# Altium footprint library Texas_Instruments.PcbLib: 113 footprints (part 1 of 8)
Each footprint in its own frame and in the unit in brackets; x right, y up, seen from the top. Pads: shape width x height; smd on the part's side, far side on the other; paste and mask are expansions set on the pad; w line width, h text height; cw(c..) or ccw(c..) is an arc to the next point about the centre after c.
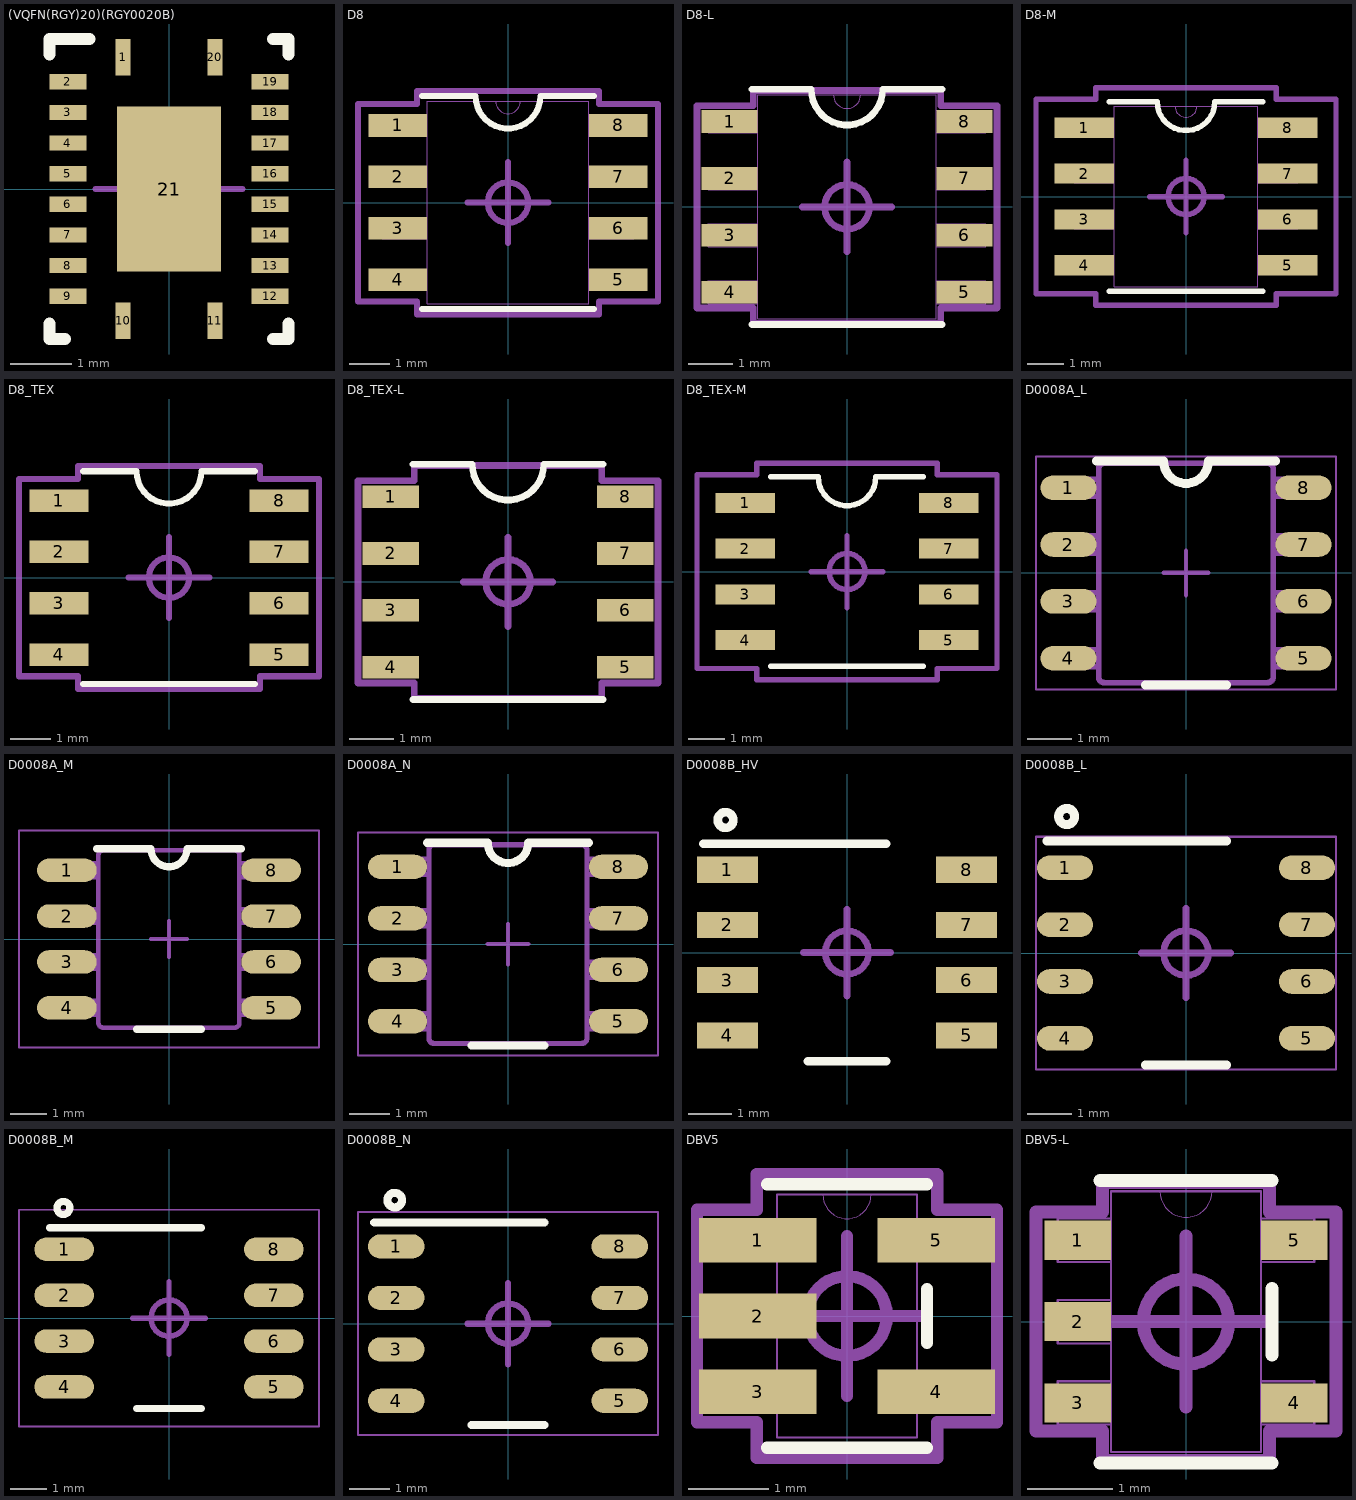
[diagram p0: the footprints below, top view; thin cyan lines are the x and y axes]

## (VQFN(RGY)20)(RGY0020B) [mm]
pads (21):
  rect 0.25x0.6 smd paste+0 mask+0.051: 1(-0.75,2.15) 10(-0.75,-2.15) 11(0.75,-2.15) 20(0.75,2.15)
  rect 0.6x0.25 smd paste+0 mask+0.051: 2(-1.65,1.75) 3(-1.65,1.25) 4(-1.65,0.75) 5(-1.65,0.25) 6(-1.65,-0.25) 7(-1.65,-0.75) 8(-1.65,-1.25) 9(-1.65,-1.75) 12(1.65,-1.75) 13(1.65,-1.25) 14(1.65,-0.75) 15(1.65,-0.25) 16(1.65,0.25) 17(1.65,0.75) 18(1.65,1.25) 19(1.65,1.75)
  rect 1.7x2.7 smd paste-1.337 mask+0.051: 21(0,0)
Top Overlay:
  lines w0.2: -1.95,-2.2 -1.95,-2.45 -1.7,-2.45 ; -1.95,2.2 -1.95,2.45 -1.3,2.45 ; 1.7,-2.45 1.95,-2.45 1.95,-2.2 ; 1.7,2.45 1.95,2.45 1.95,2.2
Top Paste:
  region: 0.774,-1.288 0.774,-0.1 -0.774,-0.1 -0.774,-1.288
  region: 0.774,0.1 0.774,1.288 -0.774,1.288 -0.774,0.1
Mechanical 15:
  circle w0.1: c0,0 r0.5
  lines w0.1: -1.2,0 0,0 ; 0,-1.2 0,0 ; 0,1.2 0,0 ; 1.2,0 0,0
3D body "User Library-20-VQFN (3_5x4_5).STEP": height 0.85, standoff -0.05, extent -1.76,-2.26 1.76,2.26

## D8 [mm]
pads (8):
  rect 1.455x0.558 smd: 1(-2.721,1.905) 2(-2.721,0.635) 3(-2.721,-0.635) 4(-2.721,-1.905) 5(2.721,-1.905) 6(2.721,-0.635) 7(2.721,0.635) 8(2.721,1.905)
Top Overlay:
  lines w0.152: -2.121,-2.629 2.121,-2.629 ; -2.121,2.629 -0.8,2.629 ccw(c0,2.629) 0.8,2.629 2.121,2.629
Mechanical 13:
  lines w0: -0.305,2.502 ccw(c0,2.502) 0.305,2.502
  lines w0.025: -3.099,-2.159 -1.994,-2.159 -1.994,-1.651 -3.099,-1.651 -3.099,-2.159 ; -3.099,-0.889 -1.994,-0.889 -1.994,-0.381 -3.099,-0.381 -3.099,-0.889 ; -3.099,0.381 -1.994,0.381 -1.994,0.889 -3.099,0.889 -3.099,0.381 ; -3.099,1.651 -1.994,1.651 -1.994,2.159 -3.099,2.159 -3.099,1.651 ; -1.994,-2.502 -1.994,2.502 1.994,2.502 1.994,-2.502 -1.994,-2.502 ; 1.994,-2.159 3.099,-2.159 3.099,-1.651 1.994,-1.651 1.994,-2.159 ; 1.994,-0.889 3.099,-0.889 3.099,-0.381 1.994,-0.381 1.994,-0.889 ; 1.994,0.381 3.099,0.381 3.099,0.889 1.994,0.889 1.994,0.381 ; 1.994,1.651 3.099,1.651 3.099,2.159 1.994,2.159 1.994,1.651
Mechanical 15:
  circle w0.152: c0,0 r0.5
  lines w0.152: -1,0 0,0 ; 0,-1 0,0 ; 0,1 0,0 ; 1,0 0,0 ; -3.703,-2.438 -2.248,-2.438 -2.248,-2.756 2.248,-2.756 2.248,-2.438 3.703,-2.438 3.703,2.438 2.248,2.438 2.248,2.756 -2.248,2.756 -2.248,2.438 -3.703,2.438 -3.703,-2.438
3D body "D0008A.stp": height 1.63, standoff 0, extent -3.011,-2.451 3.011,2.451

## D8-L [mil]
pads (8):
  rect 49.41x20 smd: 1(-103.2,75) 2(-103.2,25) 3(-103.2,-25) 4(-103.2,-75) 5(103.2,-75) 6(103.2,-25) 7(103.2,25) 8(103.2,75)
Top Overlay:
  lines w5.98: -83.5,103.5 -31.5,103.5 ccw(c0,103.5) 31.5,103.5 83.5,103.5
  lines w6: -83.5,-103.5 83.5,-103.5
Mechanical 13:
  lines w0: -12,98.5 ccw(c0,98.5) 12,98.5
  lines w1: -122,-85 -122,-65 -78.5,-65 -78.5,-85 -122,-85 ; -122,-35 -122,-15 -78.5,-15 -78.5,-35 -122,-35 ; -122,15 -122,35 -78.5,35 -78.5,15 -122,15 ; -122,65 -122,85 -78.5,85 -78.5,65 -122,65 ; -78.5,-98.5 78.5,-98.5 78.5,98.5 -78.5,98.5 -78.5,-98.5 ; 78.5,-85 78.5,-65 122,-65 122,-85 78.5,-85 ; 78.5,-35 78.5,-15 122,-15 122,-35 78.5,-35 ; 78.5,15 78.5,35 122,35 122,15 78.5,15 ; 78.5,65 78.5,85 122,85 122,65 78.5,65
Mechanical 15:
  circle w5.98: c0,0 r19.68
  lines w5.98: -39.37,0 0,0 ; 0,-39.37 0,0 ; 0,39.37 0,0 ; 39.37,0 0,0
  lines w6: -131.91,-89 -131.91,89 -82.5,89 -82.5,102.5 82.5,102.5 82.5,89 131.91,89 131.91,-89 82.5,-89 82.5,-102.5 -82.5,-102.5 -82.5,-89 -131.91,-89
3D body "D0008A.stp": height 64, standoff 0, extent -118.55,-96.49 118.56,96.51

## D8-M [mm]
pads (8):
  rect 1.655x0.558 smd: 1(-2.821,1.905) 2(-2.821,0.635) 3(-2.821,-0.635) 4(-2.821,-1.905) 5(2.821,-1.905) 6(2.821,-0.635) 7(2.821,0.635) 8(2.821,1.905)
Top Overlay:
  lines w0.152: -2.121,-2.629 2.121,-2.629 ; -2.121,2.629 -0.8,2.629 ccw(c0,2.629) 0.8,2.629 2.121,2.629
Mechanical 13:
  lines w0: -0.305,2.502 ccw(c0,2.502) 0.305,2.502
  lines w0.025: -3.099,-2.159 -1.994,-2.159 -1.994,-1.651 -3.099,-1.651 -3.099,-2.159 ; -3.099,-0.889 -1.994,-0.889 -1.994,-0.381 -3.099,-0.381 -3.099,-0.889 ; -3.099,0.381 -1.994,0.381 -1.994,0.889 -3.099,0.889 -3.099,0.381 ; -3.099,1.651 -1.994,1.651 -1.994,2.159 -3.099,2.159 -3.099,1.651 ; -1.994,-2.502 -1.994,2.502 1.994,2.502 1.994,-2.502 -1.994,-2.502 ; 1.994,-2.159 3.099,-2.159 3.099,-1.651 1.994,-1.651 1.994,-2.159 ; 1.994,-0.889 3.099,-0.889 3.099,-0.381 1.994,-0.381 1.994,-0.889 ; 1.994,0.381 3.099,0.381 3.099,0.889 1.994,0.889 1.994,0.381 ; 1.994,1.651 3.099,1.651 3.099,2.159 1.994,2.159 1.994,1.651
Mechanical 15:
  circle w0.152: c0,0 r0.5
  lines w0.152: -1,0 0,0 ; 0,-1 0,0 ; 0,1 0,0 ; 1,0 0,0 ; -4.157,-2.692 -2.502,-2.692 -2.502,-3.01 2.502,-3.01 2.502,-2.692 4.157,-2.692 4.157,2.692 2.502,2.692 2.502,3.01 -2.502,3.01 -2.502,2.692 -4.157,2.692 -4.157,-2.692
3D body "D0008A.stp": height 1.63, standoff 0, extent -3.011,-2.451 3.011,2.451

## D8_TEX [mil]
pads (8):
  rect 57.5x22 smd: 1(-107.25,75) 2(-107.25,25) 3(-107.25,-25) 4(-107.25,-75) 5(107.25,-75) 6(107.25,-25) 7(107.25,25) 8(107.25,75)
Top Overlay:
  lines w5.98: -83.5,103.5 -31.5,103.5 ccw(c0,103.5) 31.5,103.5 83.5,103.5
  lines w6: -83.5,-103.5 83.5,-103.5
Mechanical 15:
  circle w5.98: c0,0 r19.68
  lines w5.98: -39.37,0 0,0 ; 0,-39.37 0,0 ; 0,39.37 0,0 ; 39.37,0 0,0
  lines w6: -146,-96 -146,96 -88.5,96 -88.5,108.5 88.5,108.5 88.5,96 146,96 146,-96 88.5,-96 88.5,-108.5 -88.5,-108.5 -88.5,-96 -146,-96
3D body "D0008A.stp": height 64, standoff 0, extent -118.55,-96.5 118.56,96.5

## D8_TEX-L [mil]
pads (8):
  rect 49.5x20 smd: 1(-103.25,75) 2(-103.25,25) 3(-103.25,-25) 4(-103.25,-75) 5(103.25,-75) 6(103.25,-25) 7(103.25,25) 8(103.25,75)
Top Overlay:
  lines w5.98: -83.5,103.5 -31.5,103.5 ccw(c0,103.5) 31.5,103.5 83.5,103.5
  lines w6: -83.5,-103.5 83.5,-103.5
Mechanical 15:
  circle w5.98: c0,0 r19.68
  lines w5.98: -39.37,0 0,0 ; 0,-39.37 0,0 ; 0,39.37 0,0 ; 39.37,0 0,0
  lines w6: -132,-89 -82.5,-89 -82.5,-102.5 82.5,-102.5 82.5,-89 132,-89 132,89 82.5,89 82.5,102.5 -82.5,102.5 -82.5,89 -132,89 -132,-89
3D body "D0008A.stp": height 64, standoff 0, extent -118.55,-96.5 118.56,96.5

## D8_TEX-M [mil]
pads (8):
  rect 65.5x22 smd: 1(-111.25,75) 2(-111.25,25) 3(-111.25,-25) 4(-111.25,-75) 5(111.25,-75) 6(111.25,-25) 7(111.25,25) 8(111.25,75)
Top Overlay:
  lines w5.98: -83.5,103.5 -31.5,103.5 ccw(c0,103.5) 31.5,103.5 83.5,103.5
  lines w6: -83.5,-103.5 83.5,-103.5
Mechanical 15:
  circle w5.98: c0,0 r19.68
  lines w5.98: -39.37,0 0,0 ; 0,-39.37 0,0 ; 0,39.37 0,0 ; 39.37,0 0,0
  lines w6: -164,-106 -98.5,-106 -98.5,-118.5 98.5,-118.5 98.5,-106 164,-106 164,106 98.5,106 98.5,118.5 -98.5,118.5 -98.5,106 -164,106 -164,-106
3D body "D0008A.stp": height 64, standoff 0, extent -118.55,-96.5 118.56,96.5

## D0008A_L [mm]
pads (8):
  oval 1.25x0.55 smd paste+0 mask+0.051: 1(-2.625,1.905) 2(-2.625,0.635) 3(-2.625,-0.635) 4(-2.625,-1.905) 5(2.625,-1.905) 6(2.625,-0.635) 7(2.625,0.635) 8(2.625,1.905)
Top Overlay:
  lines w0.2: -2,2.5 -0.5,2.5 ccw(c0,2.5) 0.5,2.5 2,2.5 ; -0.9,-2.5 0.9,-2.5
Mechanical 13:
  lines w0.127: -2.375,-2.095 -2.375,-1.715 ; -2.375,-2.095 -2.589,-2.095 -3.002,-2.095 -3.002,-1.715 -2.589,-1.715 -2.375,-1.715 ; -2.375,-2.095 -1.995,-2.095 -1.952,-2.095 -1.952,-1.715 -1.995,-1.715 -2.375,-1.715 ; -2.375,-0.825 -2.375,-0.445 ; -2.375,-0.825 -2.589,-0.825 -3.002,-0.825 -3.002,-0.445 -2.589,-0.445 -2.375,-0.445 ; -2.375,-0.825 -1.995,-0.825 -1.952,-0.825 -1.952,-0.445 -1.995,-0.445 -2.375,-0.445 ; -2.375,0.445 -2.375,0.825 ; -2.375,0.445 -2.589,0.445 -3.002,0.445 -3.002,0.825 -2.589,0.825 -2.375,0.825 ; -2.375,0.445 -1.995,0.445 -1.952,0.445 -1.952,0.825 -1.995,0.825 -2.375,0.825 ; -2.375,1.715 -2.375,2.095 ; -2.375,1.715 -2.589,1.715 -3.002,1.715 -3.002,2.095 -2.589,2.095 -2.375,2.095 ; -2.375,1.715 -1.995,1.715 -1.952,1.715 -1.952,2.095 -1.995,2.095 -2.375,2.095 ; -0.332,-2.45 -0.182,-2.45 ; -0.332,-2.45 -0.182,-2.45 ; -0.332,-2.45 -1.825,-2.45 -1.826,-2.45 cw(c-1.825,-2.323) -1.952,-2.324 -1.952,-2.323 -1.952,2.323 -1.952,2.324 cw(c-1.825,2.323) -1.826,2.45 -1.825,2.45 -0.332,2.45 ; -0.332,2.45 -0.182,2.45 ; -0.332,2.45 -0.182,2.45 ; -0.182,-2.45 0.178,-2.45 ; -0.182,2.45 0.178,2.45 ; 0.178,-2.45 0.328,-2.45 ; 0.178,-2.45 0.328,-2.45 ; 0.178,2.45 0.328,2.45 ; 0.178,2.45 0.328,2.45 ; 0.328,-2.45 1.821,-2.45 1.822,-2.45 ccw(c1.821,-2.323) 1.948,-2.324 1.948,-2.323 1.948,2.323 1.948,2.324 ccw(c1.821,2.323) 1.822,2.45 1.821,2.45 0.328,2.45 ; 2.371,-2.095 2.371,-1.715 ; 2.371,-2.095 1.991,-2.095 1.948,-2.095 1.948,-1.715 1.991,-1.715 2.371,-1.715 ; 2.371,-2.095 2.585,-2.095 2.998,-2.095 2.998,-1.715 2.585,-1.715 2.371,-1.715 ; 2.371,-0.825 2.371,-0.445 ; 2.371,-0.825 1.991,-0.825 1.948,-0.825 1.948,-0.445 1.991,-0.445 2.371,-0.445 ; 2.371,-0.825 2.585,-0.825 2.998,-0.825 2.998,-0.445 2.585,-0.445 2.371,-0.445 ; 2.371,0.445 2.371,0.825 ; 2.371,0.445 1.991,0.445 1.948,0.445 1.948,0.825 1.991,0.825 2.371,0.825 ; 2.371,0.445 2.585,0.445 2.998,0.445 2.998,0.825 2.585,0.825 2.371,0.825 ; 2.371,1.715 2.371,2.095 ; 2.371,1.715 1.991,1.715 1.948,1.715 1.948,2.095 1.991,2.095 2.371,2.095 ; 2.371,1.715 2.585,1.715 2.998,1.715 2.998,2.095 2.585,2.095 2.371,2.095
Mechanical 15:
  lines w0.05: -3.35,-2.6 3.35,-2.6 3.35,2.6 -3.35,2.6 -3.35,-2.6
  lines w0.1: -0.5,0 0.5,0 ; 0,-0.5 0,0.5
3D body: height 0.25, standoff 0, extent 0,0 0.254,0.254
3D body "D0008B.stp": height 1.63, standoff 0, extent -3.011,-2.451 3.012,2.451

## D0008A_M [mm]
pads (8):
  oval 1.65x0.65 smd paste+0 mask+0.051: 1(-2.825,1.905) 2(-2.825,0.635) 3(-2.825,-0.635) 4(-2.825,-1.905) 5(2.825,-1.905) 6(2.825,-0.635) 7(2.825,0.635) 8(2.825,1.905)
Top Overlay:
  lines w0.2: -2,2.5 -0.5,2.5 ccw(c0,2.5) 0.5,2.5 2,2.5 ; -0.9,-2.5 0.9,-2.5
Mechanical 13:
  lines w0.127: -2.375,-2.095 -1.995,-2.095 -1.952,-2.095 -1.952,-1.715 -1.995,-1.715 -2.375,-1.715 ; -2.375,-2.095 -2.589,-2.095 -3.002,-2.095 -3.002,-1.715 -2.589,-1.715 -2.375,-1.715 ; -2.375,-2.095 -2.375,-1.715 ; -2.375,-0.825 -1.995,-0.825 -1.952,-0.825 -1.952,-0.445 -1.995,-0.445 -2.375,-0.445 ; -2.375,-0.825 -2.589,-0.825 -3.002,-0.825 -3.002,-0.445 -2.589,-0.445 -2.375,-0.445 ; -2.375,-0.825 -2.375,-0.445 ; -2.375,0.445 -1.995,0.445 -1.952,0.445 -1.952,0.825 -1.995,0.825 -2.375,0.825 ; -2.375,0.445 -2.589,0.445 -3.002,0.445 -3.002,0.825 -2.589,0.825 -2.375,0.825 ; -2.375,0.445 -2.375,0.825 ; -2.375,1.715 -1.995,1.715 -1.952,1.715 -1.952,2.095 -1.995,2.095 -2.375,2.095 ; -2.375,1.715 -2.589,1.715 -3.002,1.715 -3.002,2.095 -2.589,2.095 -2.375,2.095 ; -2.375,1.715 -2.375,2.095 ; -0.332,-2.45 -1.825,-2.45 -1.826,-2.45 cw(c-1.825,-2.323) -1.952,-2.324 -1.952,-2.323 -1.952,2.323 -1.952,2.324 cw(c-1.825,2.323) -1.826,2.45 -1.825,2.45 -0.332,2.45 ; -0.332,-2.45 -0.182,-2.45 ; -0.332,-2.45 -0.182,-2.45 ; -0.332,2.45 -0.182,2.45 ; -0.332,2.45 -0.182,2.45 ; -0.182,-2.45 0.178,-2.45 ; -0.182,2.45 0.178,2.45 ; 0.178,-2.45 0.328,-2.45 ; 0.178,-2.45 0.328,-2.45 ; 0.178,2.45 0.328,2.45 ; 0.178,2.45 0.328,2.45 ; 0.328,-2.45 1.821,-2.45 1.822,-2.45 ccw(c1.821,-2.323) 1.948,-2.324 1.948,-2.323 1.948,2.323 1.948,2.324 ccw(c1.821,2.323) 1.822,2.45 1.821,2.45 0.328,2.45 ; 2.371,-2.095 2.585,-2.095 2.998,-2.095 2.998,-1.715 2.585,-1.715 2.371,-1.715 ; 2.371,-2.095 1.991,-2.095 1.948,-2.095 1.948,-1.715 1.991,-1.715 2.371,-1.715 ; 2.371,-2.095 2.371,-1.715 ; 2.371,-0.825 2.585,-0.825 2.998,-0.825 2.998,-0.445 2.585,-0.445 2.371,-0.445 ; 2.371,-0.825 1.991,-0.825 1.948,-0.825 1.948,-0.445 1.991,-0.445 2.371,-0.445 ; 2.371,-0.825 2.371,-0.445 ; 2.371,0.445 2.585,0.445 2.998,0.445 2.998,0.825 2.585,0.825 2.371,0.825 ; 2.371,0.445 1.991,0.445 1.948,0.445 1.948,0.825 1.991,0.825 2.371,0.825 ; 2.371,0.445 2.371,0.825 ; 2.371,1.715 2.585,1.715 2.998,1.715 2.998,2.095 2.585,2.095 2.371,2.095 ; 2.371,1.715 1.991,1.715 1.948,1.715 1.948,2.095 1.991,2.095 2.371,2.095 ; 2.371,1.715 2.371,2.095
Mechanical 15:
  lines w0.05: -4.15,-3 4.15,-3 4.15,3 -4.15,3 -4.15,-3
  lines w0.1: -0.5,0 0.5,0 ; 0,-0.5 0,0.5
3D body: height 0.25, standoff 0, extent 0,0 0.254,0.254
3D body "D0008B.stp": height 1.63, standoff 0, extent -3.211,-2.451 2.812,2.451

## D0008A_N [mm]
pads (8):
  oval 1.45x0.6 smd paste+0 mask+0.051: 1(-2.725,1.905) 2(-2.725,0.635) 3(-2.725,-0.635) 4(-2.725,-1.905) 5(2.725,-1.905) 6(2.725,-0.635) 7(2.725,0.635) 8(2.725,1.905)
Top Overlay:
  lines w0.2: -2,2.5 -0.5,2.5 ccw(c0,2.5) 0.5,2.5 2,2.5 ; -0.9,-2.5 0.9,-2.5
Mechanical 13:
  lines w0.127: -2.375,-2.095 -2.375,-1.715 ; -2.375,-2.095 -2.589,-2.095 -3.002,-2.095 -3.002,-1.715 -2.589,-1.715 -2.375,-1.715 ; -2.375,-2.095 -1.995,-2.095 -1.952,-2.095 -1.952,-1.715 -1.995,-1.715 -2.375,-1.715 ; -2.375,-0.825 -2.375,-0.445 ; -2.375,-0.825 -2.589,-0.825 -3.002,-0.825 -3.002,-0.445 -2.589,-0.445 -2.375,-0.445 ; -2.375,-0.825 -1.995,-0.825 -1.952,-0.825 -1.952,-0.445 -1.995,-0.445 -2.375,-0.445 ; -2.375,0.445 -2.375,0.825 ; -2.375,0.445 -2.589,0.445 -3.002,0.445 -3.002,0.825 -2.589,0.825 -2.375,0.825 ; -2.375,0.445 -1.995,0.445 -1.952,0.445 -1.952,0.825 -1.995,0.825 -2.375,0.825 ; -2.375,1.715 -2.375,2.095 ; -2.375,1.715 -2.589,1.715 -3.002,1.715 -3.002,2.095 -2.589,2.095 -2.375,2.095 ; -2.375,1.715 -1.995,1.715 -1.952,1.715 -1.952,2.095 -1.995,2.095 -2.375,2.095 ; -0.332,-2.45 -0.182,-2.45 ; -0.332,-2.45 -0.182,-2.45 ; -0.332,-2.45 -1.825,-2.45 -1.826,-2.45 cw(c-1.825,-2.323) -1.952,-2.324 -1.952,-2.323 -1.952,2.323 -1.952,2.324 cw(c-1.825,2.323) -1.826,2.45 -1.825,2.45 -0.332,2.45 ; -0.332,2.45 -0.182,2.45 ; -0.332,2.45 -0.182,2.45 ; -0.182,-2.45 0.178,-2.45 ; -0.182,2.45 0.178,2.45 ; 0.178,-2.45 0.328,-2.45 ; 0.178,-2.45 0.328,-2.45 ; 0.178,2.45 0.328,2.45 ; 0.178,2.45 0.328,2.45 ; 0.328,-2.45 1.821,-2.45 1.822,-2.45 ccw(c1.821,-2.323) 1.948,-2.324 1.948,-2.323 1.948,2.323 1.948,2.324 ccw(c1.821,2.323) 1.822,2.45 1.821,2.45 0.328,2.45 ; 2.371,-2.095 2.371,-1.715 ; 2.371,-2.095 1.991,-2.095 1.948,-2.095 1.948,-1.715 1.991,-1.715 2.371,-1.715 ; 2.371,-2.095 2.585,-2.095 2.998,-2.095 2.998,-1.715 2.585,-1.715 2.371,-1.715 ; 2.371,-0.825 2.371,-0.445 ; 2.371,-0.825 1.991,-0.825 1.948,-0.825 1.948,-0.445 1.991,-0.445 2.371,-0.445 ; 2.371,-0.825 2.585,-0.825 2.998,-0.825 2.998,-0.445 2.585,-0.445 2.371,-0.445 ; 2.371,0.445 2.371,0.825 ; 2.371,0.445 1.991,0.445 1.948,0.445 1.948,0.825 1.991,0.825 2.371,0.825 ; 2.371,0.445 2.585,0.445 2.998,0.445 2.998,0.825 2.585,0.825 2.371,0.825 ; 2.371,1.715 2.371,2.095 ; 2.371,1.715 1.991,1.715 1.948,1.715 1.948,2.095 1.991,2.095 2.371,2.095 ; 2.371,1.715 2.585,1.715 2.998,1.715 2.998,2.095 2.585,2.095 2.371,2.095
Mechanical 15:
  lines w0.05: -3.7,-2.75 -3.7,2.75 3.7,2.75 3.7,-2.75 -3.7,-2.75
  lines w0.1: -0.5,0 0.5,0 ; 0,-0.5 0,0.5
3D body: height 0.25, standoff 0, extent 0,0 0.254,0.254
3D body "D0008B.stp": height 1.63, standoff 0, extent -3.111,-2.451 2.912,2.451

## D0008B_HV [mm]
pads (8):
  rect 1.4x0.6 smd: 1(-2.75,1.905) 2(-2.75,0.635) 3(-2.75,-0.635) 4(-2.75,-1.905) 5(2.75,-1.905) 6(2.75,-0.635) 7(2.75,0.635) 8(2.75,1.905)
Top Overlay:
  circle w0.2: c-2.794,3.048 r0.18
  lines w0.2: -3.3,2.5 0.9,2.5 ; -0.9,-2.5 0.9,-2.5
Mechanical 15:
  circle w0.152: c0,0 r0.5
  lines w0.152: -1,0 0,0 ; 0,-1 0,0 ; 0,1 0,0 ; 1,0 0,0
3D body "D0008B.stp": height 1.63, standoff 0, extent -3.011,-2.451 3.011,2.451

## D0008B_L [mm]
pads (8):
  oval 1.25x0.55 smd: 1(-2.7,1.905) 2(-2.7,0.635) 3(-2.7,-0.635) 4(-2.7,-1.905) 5(2.7,-1.905) 6(2.7,-0.635) 7(2.7,0.635) 8(2.7,1.905)
Top Overlay:
  circle w0.2: c-2.667,3.048 r0.18
  lines w0.2: -3.1,2.5 0.9,2.5 ; -0.9,-2.5 0.9,-2.5
Mechanical 15:
  circle w0.152: c0,0 r0.5
  lines w0.05: -3.35,-2.6 -3.35,2.6 3.35,2.6 3.35,-2.6 -3.35,-2.6
  lines w0.152: -1,0 0,0 ; 0,-1 0,0 ; 0,1 0,0 ; 1,0 0,0
3D body "D0008A.stp": height 1.63, standoff 0, extent -3.011,-2.451 3.011,2.451

## D0008B_M [mm]
pads (8):
  oval 1.65x0.65 smd: 1(-2.9,1.905) 2(-2.9,0.635) 3(-2.9,-0.635) 4(-2.9,-1.905) 5(2.9,-1.905) 6(2.9,-0.635) 7(2.9,0.635) 8(2.9,1.905)
Top Overlay:
  circle w0.2: c-2.921,3.048 r0.18
  lines w0.2: -3.3,2.5 0.9,2.5 ; -0.9,-2.5 0.9,-2.5
Mechanical 15:
  circle w0.152: c0,0 r0.5
  lines w0.05: -4.15,-3 4.15,-3 4.15,3 -4.15,3 -4.15,-3
  lines w0.152: -1,0 0,0 ; 0,-1 0,0 ; 0,1 0,0 ; 1,0 0,0
3D body "D0008A.stp": height 1.63, standoff 0, extent -3.011,-2.451 3.011,2.451

## D0008B_N [mil]
pads (8):
  oval 55x23.62 smd: 1(-108.5,75) 2(-108.5,25) 3(-108.5,-25) 4(-108.5,-75) 5(108.5,-75) 6(108.5,-25) 7(108.5,25) 8(108.5,75)
Top Overlay:
  circle w7.87: c-110,120 r7.07
  lines w7.87: -129.92,98.43 35.43,98.43 ; -35.43,-98.43 35.43,-98.43
Mechanical 15:
  circle w5.98: c0,0 r19.68
  lines w1.97: -145.67,-108.27 145.67,-108.27 145.67,108.27 -145.67,108.27 -145.67,-108.27
  lines w3.94: -19.69,0 19.68,0 ; 0,-19.68 0,19.68
  lines w5.98: -39.37,0 0,0 ; 0,-39.37 0,0 ; 0,39.37 0,0 ; 39.37,0 0,0
3D body "D0008A.stp": height 64, standoff 0, extent -118.55,-96.5 118.56,96.5

## DBV5 [mil]
pads (5):
  rect 58x22 smd: 1(-44,37.4) 2(-44,0) 3(-44,-37.4) 4(44,-37.4) 5(44,37.4)
Top Overlay:
  lines w6: -39.5,-65 39.5,-65 ; -39.5,65 39.5,65 ; 39.5,-13.3 39.5,13.3
Mechanical 13:
  lines w0: -12,60 ccw(c0,60) 12,60
  lines w1: -59,-47.4 -59,-27.4 -34.5,-27.4 -34.5,-47.4 -59,-47.4 ; -59,-10 -59,10 -34.5,10 -34.5,-10 -59,-10 ; -59,27.4 -59,47.4 -34.5,47.4 -34.5,27.4 -59,27.4 ; -34.5,-60 34.5,-60 34.5,60 -34.5,60 -34.5,-60 ; 34.5,-47.4 34.5,-27.4 59,-27.4 59,-47.4 34.5,-47.4 ; 34.5,27.4 34.5,47.4 59,47.4 59,27.4 34.5,27.4
Mechanical 15:
  circle w5.98: c0,0 r19.68
  lines w5.98: -39.37,0 0,0 ; 0,-39.37 0,0 ; 0,39.37 0,0 ; 39.37,0 0,0
  lines w6: -74,-52.4 -44.5,-52.4 -44.5,-70 44.5,-70 44.5,-52.4 74,-52.4 74,52.4 44.5,52.4 44.5,70 -44.5,70 -44.5,52.4 -74,52.4 -74,-52.4
3D body "DBV5.step": height 57.09, standoff 0, extent -59.01,-60 59.02,60

## DBV5-L [mil]
pads (5):
  rect 30.5x18 smd: 1(-49.75,37.4) 2(-49.75,0) 3(-49.75,-37.4) 4(49.75,-37.4) 5(49.75,37.4)
Top Overlay:
  lines w6: -39.5,-65 39.5,-65 ; -39.5,65 39.5,65 ; 39.5,-15.3 39.5,15.3
Mechanical 13:
  lines w0: -12,60 ccw(c0,60) 12,60
  lines w1: -59,-47.4 -59,-27.4 -34.5,-27.4 -34.5,-47.4 -59,-47.4 ; -59,-10 -59,10 -34.5,10 -34.5,-10 -59,-10 ; -59,27.4 -59,47.4 -34.5,47.4 -34.5,27.4 -59,27.4 ; -34.5,-60 34.5,-60 34.5,60 -34.5,60 -34.5,-60 ; 34.5,-47.4 34.5,-27.4 59,-27.4 59,-47.4 34.5,-47.4 ; 34.5,27.4 34.5,47.4 59,47.4 59,27.4 34.5,27.4
Mechanical 15:
  circle w5.98: c0,0 r19.68
  lines w5.98: -39.37,0 0,0 ; 0,-39.37 0,0 ; 0,39.37 0,0 ; 39.37,0 0,0
  lines w6: -69,-50.4 -38.5,-50.4 -38.5,-64 38.5,-64 38.5,-50.4 69,-50.4 69,50.4 38.5,50.4 38.5,64 -38.5,64 -38.5,50.4 -69,50.4 -69,-50.4
3D body "DBV5.step": height 57.09, standoff 0, extent -59.01,-60 59.02,60